# Altium schematic symbol library LP38691SDX_3.SchLib: 2 symbols
Pins are listed as number, name and electrical type; pins without a type are passive.

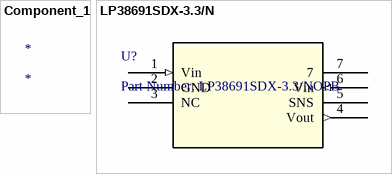
[diagram p0: symbols Component_1 to LP38691SDX-3.3/N]

## Component_1
designator *

## LP38691SDX-3.3/N
designator U?, comment Part Number: LP38691SDX-3.3/NOPB
No Description Available; Vendor: Texas Instruments; Built_By: EMA_UL_Team; Manufacturer_Part_Number: LP38691SDX-3.3/NOPB; Copyright: Copyright (C) 2018 Accelerated Designs. All rights reserved; RefDes: RefDes; Type: DEV; Value: Value
footprint SDE06A
pins: 1 Vin (in), 2 GND, 3 NC, 4 Vout (out), 5 SNS, 6 Vin (in), 7